# Altium schematic symbol library Diod.SchLib: 491 symbols (part 2 of 2)
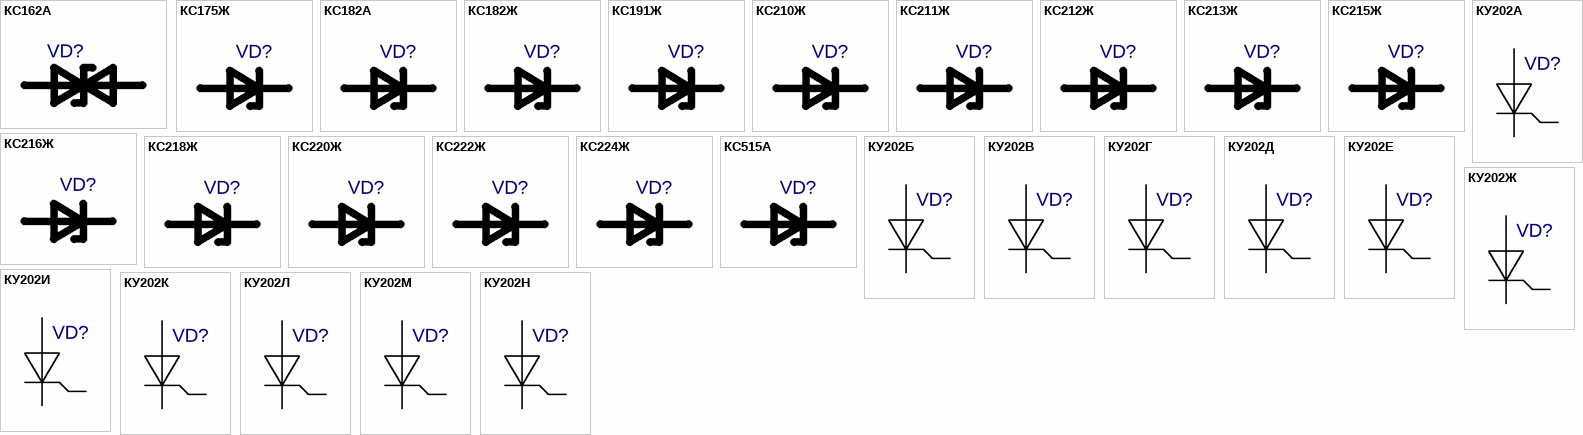
[diagram p13: symbols КС162А to КУ202Н]

## КС222Ж
designator VD?  (value not drawn)
Value: *
footprint KD-2_КС222Ж(Primary)
pins: A 1, K 2

## КС224Ж
designator VD?  (value not drawn)
Value: *
footprint KD-2_КС224Ж(Primary)
pins: A 1, K 2

## КС515А
designator VD?  (value not drawn)
Value: *
footprint KC515A_КС515А(Primary)
pins: A, K

## КУ202А
designator VD?  (value not drawn)
Value: *
footprint КУ202_КУ202А(Primary)
pins: 1, 2, UE 3

## КУ202Б
designator VD?  (value not drawn)
Value: *
footprint КУ202_КУ202Б(Primary)
pins: 1, 2, UE 3

## КУ202В
designator VD?  (value not drawn)
Value: *
footprint КУ202_КУ202В(Primary)
pins: 1, 2, UE 3

## КУ202Г
designator VD?  (value not drawn)
Value: *
footprint КУ202_КУ202Г(Primary)
pins: 1, 2, UE 3

## КУ202Д
designator VD?  (value not drawn)
Value: *
footprint КУ202_КУ202Д(Primary)
pins: 1, 2, UE 3

## КУ202Е
designator VD?  (value not drawn)
Value: *
footprint КУ202_КУ202Е(Primary)
pins: 1, 2, UE 3

## КУ202Ж
designator VD?  (value not drawn)
Value: *
footprint КУ202_КУ202Ж(Primary)
pins: 1, 2, UE 3

## КУ202И
designator VD?  (value not drawn)
Value: *
footprint КУ202_КУ202И(Primary)
pins: 1, 2, UE 3

## КУ202К
designator VD?  (value not drawn)
Value: *
footprint КУ202_КУ202К(Primary)
pins: 1, 2, UE 3

## КУ202Л
designator VD?  (value not drawn)
Value: *
footprint КУ202_КУ202Л(Primary)
pins: 1, 2, UE 3

## КУ202М
designator VD?  (value not drawn)
Value: *
footprint КУ202_КУ202М(Primary)
pins: 1, 2, UE 3

## КУ202Н
designator VD?  (value not drawn)
Value: *
footprint КУ202_КУ202Н(Primary)
pins: 1, 2, UE 3